# Altium schematic symbol library CAP_1210.SchLib: 1 symbol
Pins are listed as number, name and electrical type; pins without a type are passive.

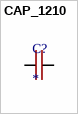
[diagram p0: symbol CAP_1210]

## CAP_1210
designator C?
footprint FP-C1210X475K5RACTU-IPC_A
footprint FP-C1210X475K5RACTU-IPC_B
footprint FP-C1210X475K5RACTU-IPC_C
footprint FP-C1210X475K5RACTU-MFG
pins: 1, 2